# Altium schematic symbol library SnapEDAsch.SchLib: 1 symbol
Pins are listed as number, name and electrical type; pins without a type are passive.

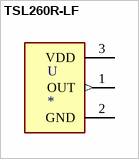
[diagram p0: symbol TSL260R-LF]

## TSL260R-LF
designator U
Optical Sensor IR 940nm Voltage Radial - 3 Leads; MF: ams; MP: TSL260R-LF; Package: Radial-3 ams; Price: None; SnapEDA_Link: https://www.snapeda.com/parts/TSL260R-LF/ams/view-part/231471/?ref=snap; Availability: Unavailable; Value: *
footprint XDCR_TSL260R-LF
pins: 1 OUT (out), 2 GND (power), 3 VDD (power)